# EAGLE library part BMG160 (library Bosch)
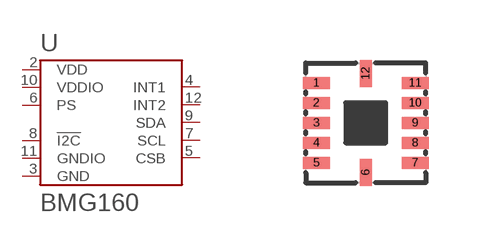
[diagram p0: symbol with the pads of BMG160; footprint BMG160]

Designator prefix U

## BMG160  [BMG160]
2  VDD
3  GND
4  INT1
5  CSB
6  PS
7  SCL
8  !I2C
9  SDA
10  VDDIO
11  GNDIO
12  INT2

## Footprint BMG160 (pad centres in mm)
smd 0.675 x 0.3: 1 -1.238,1; 2 -1.238,0.5; 3 -1.238,0; 4 -1.238,-0.5; 5 -1.238,-1; 7 1.238,-1; 8 1.238,-0.5; 9 1.238,0; 10 1.238,0.5; 11 1.238,1
smd 0.3 x 0.675: 6 0,-1.238; 12 0,1.238